# Altium schematic symbol library BYV44-500,127.Schlib: 1 symbol
Pins are listed as number, name and electrical type; pins without a type are passive.

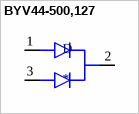
[diagram p0: symbol BYV44-500,127]

## BYV44-500,127
designator D
DIODE ARRAY GP 500V 30A TO220AB; MP: BYV44-500,127; MF: WeEn Semiconductors; Package: TO-220-3; Supplier 1: Digi-Key; Supplier Part Number 1: BYV44-500,127-ND
footprint to-220-3
pins: 1 ANODE1, 2 COMMON_CATHODE, 3 ANODE2